# EAGLE library part MB85RC256VPF-G-JNERE2 (library MB85RC256VPF-G-JNERE2)
FRAM (Ferroelectric RAM) Memory IC 256Kb (32K x 8) I2C 1MHz 550ns 8-SOP Check availability <https://pricing.snapeda.com/parts/MB85RC256VPF-G-JNERE2/Fujitsu%20Electronics/view-part?ref=eda>
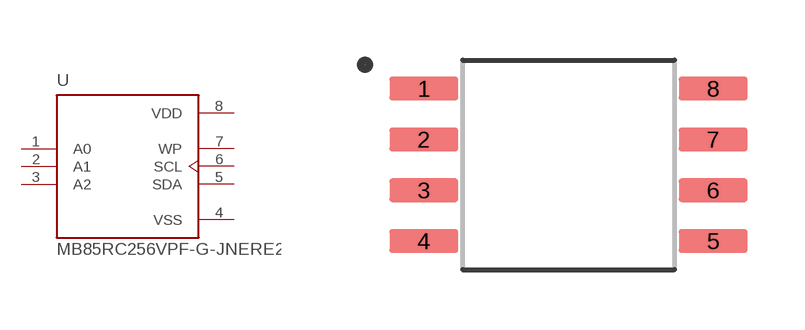
[diagram p0: symbol with the pads of SOP127P797X210-8N; footprint SOP127P797X210-8N]

Designator prefix U

## MB85RC256VPF-G-JNERE2 (Availability: In Stock; Description: FRAM (Ferroelectric RAM) Memory IC 256Kb (32K x 8) I²C 1 MHz 550 ns 8-SOP; MF: Fujitsu Electronics; MP: MB85RC256VPF-G-JNERE2; Package: SOP-8 Fujitsu; Price: None; Purchase-URL: https://pricing.snapeda.com/search/part/MB85RC256VPF-G-JNERE2/?ref=eda)  [SOP127P797X210-8N]
1  A0  in
2  A1  in
3  A2  in
4  VSS  pwr
5  SDA
6  SCL  in
7  WP  in
8  VDD  pwr

## Footprint SOP127P797X210-8N (pad centres in mm)
smd 1.72 x 0.59: 1 -3.62,1.905; 2 -3.62,0.635; 3 -3.62,-0.635; 4 -3.62,-1.905; 5 3.62,-1.905; 6 3.62,-0.635; 7 3.62,0.635; 8 3.62,1.905